# EAGLE library part AVRISP6PIN (library avrisp)
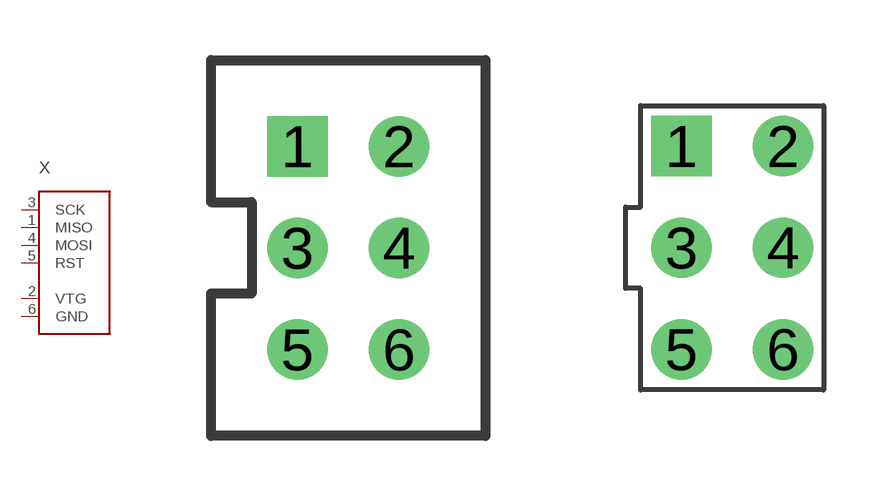
[diagram p0: symbol with the pads of 6PIN; footprints 6PIN, 6PINHEADER]

Designator prefix X

## AVRISP6PINBIG  [6PIN]
1  MISO
2  VTG
3  SCK
4  MOSI
5  RST
6  GND

## AVRISP6PINHEADER  [6PINHEADER]
Pads as for 6PIN

## AVRISP6PIN  [6PINSMD]
Pads as for 6PIN

## Footprint 6PIN (pad centres in mm)
drill 1 square: 1 -1.27,2.54
drill 1 round: 2 1.27,2.54; 3 -1.27,0; 4 1.27,0; 5 -1.27,-2.54; 6 1.27,-2.54

## Footprint 6PINHEADER (pad centres in mm)
drill 1 square: 1 -1.27,2.54
drill 1 round: 2 1.27,2.54; 3 -1.27,0; 4 1.27,0; 5 -1.27,-2.54; 6 1.27,-2.54

## Footprint 6PINSMD (pad centres in mm)
smd 1.4 x 1.4 bottom: 1 0,2.54; 2 -2.54,2.54; 3 0,0; 4 -2.54,0; 5 0,-2.54; 6 -2.54,-2.54